# EAGLE library part DE0_NANO_JP1 (library de0-nano)
DE0-Nano JP1 only
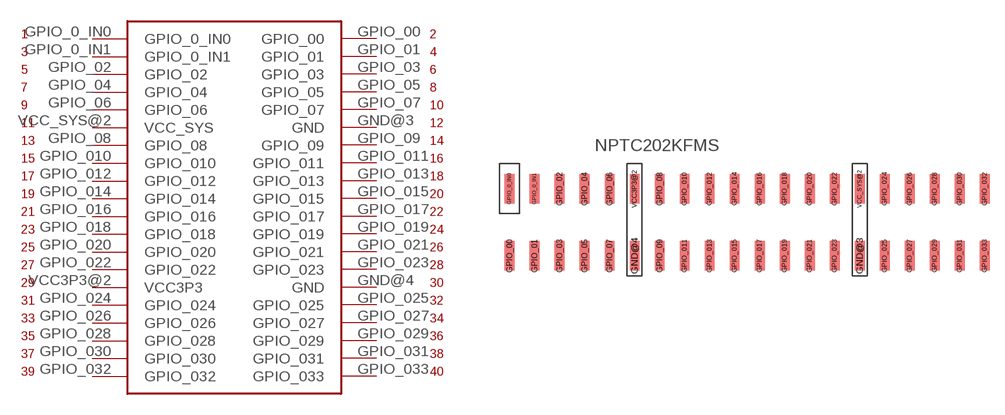
[diagram p1: symbol with the pads of DE0_NANO_JP1; footprint DE0_NANO_JP1]

Designator prefix -

## DE0_NANO_JP1  [DE0_NANO_JP1]
GND@3  GND  pwr
GND@4  GND  pwr
GPIO_00  GPIO_00
GPIO_0_IN0  GPIO_0_IN0
GPIO_0_IN1  GPIO_0_IN1
GPIO_01  GPIO_01
GPIO_02  GPIO_02
GPIO_03  GPIO_03
GPIO_04  GPIO_04
GPIO_05  GPIO_05
GPIO_06  GPIO_06
GPIO_07  GPIO_07
GPIO_08  GPIO_08
GPIO_09  GPIO_09
GPIO_010  GPIO_010
GPIO_011  GPIO_011
GPIO_012  GPIO_012
GPIO_013  GPIO_013
GPIO_014  GPIO_014
GPIO_015  GPIO_015
GPIO_016  GPIO_016
GPIO_017  GPIO_017
GPIO_018  GPIO_018
GPIO_019  GPIO_019
GPIO_020  GPIO_020
GPIO_021  GPIO_021
GPIO_022  GPIO_022
GPIO_023  GPIO_023
GPIO_024  GPIO_024
GPIO_025  GPIO_025
GPIO_026  GPIO_026
GPIO_027  GPIO_027
GPIO_028  GPIO_028
GPIO_029  GPIO_029
GPIO_030  GPIO_030
GPIO_031  GPIO_031
GPIO_032  GPIO_032
GPIO_033  GPIO_033
VCC3P3@2  VCC3P3  pwr
VCC_SYS@2  VCC_SYS  pwr

## Footprint DE0_NANO_JP1 (pad centres in mm)
de0 nano
smd 1 x 3: GND@3 11.69,-3.02; GND@4 -11.17,-3.02; GPIO_00 -23.87,-3.02; GPIO_0_IN0 -23.87,3.78; GPIO_0_IN1 -21.33,3.78; GPIO_01 -21.33,-3.02; GPIO_02 -18.79,3.78; GPIO_03 -18.79,-3.02; GPIO_04 -16.25,3.78; GPIO_05 -16.25,-3.02; GPIO_06 -13.71,3.78; GPIO_07 -13.71,-3.02; GPIO_08 -8.63,3.78; GPIO_09 -8.63,-3.02; GPIO_010 -6.09,3.78; GPIO_011 -6.09,-3.02; GPIO_012 -3.55,3.78; GPIO_013 -3.55,-3.02; GPIO_014 -1.01,3.78; GPIO_015 -1.01,-3.02; GPIO_016 1.53,3.78; GPIO_017 1.53,-3.02; GPIO_018 4.07,3.78; GPIO_019 4.07,-3.02; GPIO_020 6.61,3.78; GPIO_021 6.61,-3.02; GPIO_022 9.15,3.78; GPIO_023 9.15,-3.02; GPIO_024 14.23,3.78; GPIO_025 14.23,-3.02; GPIO_026 16.77,3.78; GPIO_027 16.77,-3.02; GPIO_028 19.31,3.78; GPIO_029 19.31,-3.02; GPIO_030 21.85,3.78; GPIO_031 21.85,-3.02; GPIO_032 24.39,3.78; GPIO_033 24.39,-3.02; VCC3P3@2 -11.17,3.78; VCC_SYS@2 11.69,3.78